# Altium footprint library telecontrolli.PCBLIB: 3 footprints
Each footprint in its own frame and in the unit in brackets; x right, y up, seen from the top. Pads: shape width x height; smd on the part's side, far side on the other; paste and mask are expansions set on the pad; w line width, h text height; cw(c..) or ccw(c..) is an arc to the next point about the centre after c.
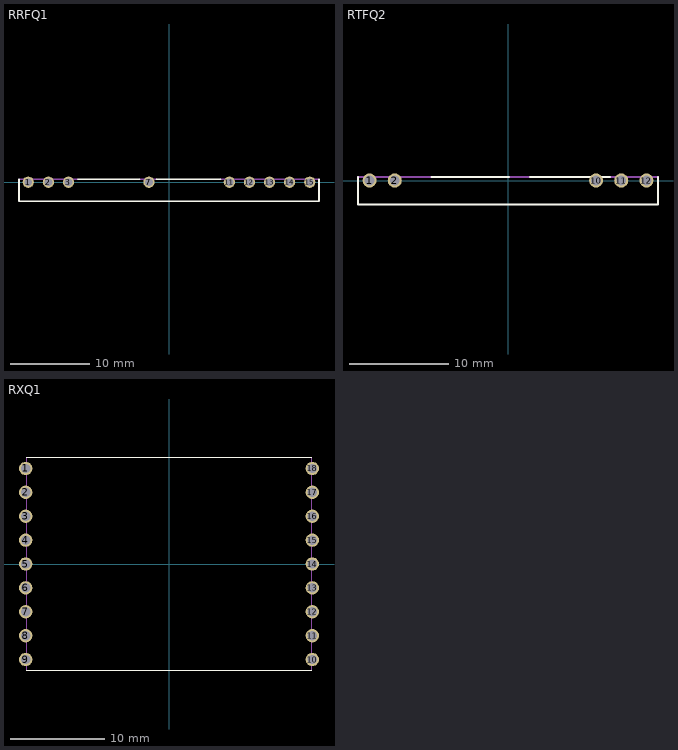
[diagram p0: the footprints below, top view; thin cyan lines are the x and y axes]

## RRFQ1 [mil]
pads (9):
  round 56 hole 39.37: 1(-700,0) 2(-600,0) 3(-500,0) 7(-100,0) 11(300,0) 12(400,0) 13(500,0) 14(600,0) 15(700,0)
Top Overlay:
  lines w8: -746.06,14.76 -746.06,-95.47 746.06,-95.47 746.06,14.76 ; -454.72,14.76 -145.67,14.76 ; -62.01,14.76 255.91,14.76
Mechanical 16:
  lines w8: -746.06,14.76 -454.72,14.76 ; -145.67,14.76 -62.01,14.76 ; 255.91,14.76 746.06,14.76

## RTFQ2 [mil]
pads (5):
  round 56 hole 39.37: 1(-550,0) 2(-450,0) 10(350,0) 11(450,0) 12(550,0)
Top Overlay:
  lines w8: -596.06,14.76 -596.06,-95.47 596.06,-95.47 596.06,14.76 ; -304.72,14.76 4.33,14.76 ; 87.99,14.76 405.91,14.76
Mechanical 16:
  lines w8: -596.06,14.76 -304.72,14.76 ; 4.33,14.76 87.99,14.76 ; 405.91,14.76 596.06,14.76

## RXQ1 [mil]
pads (18):
  round 56 hole 39.37: 1(-600,400) 2(-600,300) 3(-600,200) 4(-600,100) 5(-600,0) 6(-600,-100) 7(-600,-200) 8(-600,-300) 9(-600,-400) 10(600,-400) 11(600,-300) 12(600,-200) 13(600,-100) 14(600,0) 15(600,100) 16(600,200) 17(600,300) 18(600,400)
Top Overlay:
  lines w4: -597.44,-447.83 597.44,-447.83 ; -597.44,447.83 597.44,447.83
Mechanical 16:
  lines w4: -597.44,-447.83 -597.44,447.83 ; 597.44,-447.83 597.44,447.83